# Altium footprint library PcbLibAT2560.PcbLib: 14 footprints
Each footprint in its own frame and in the unit in brackets; x right, y up, seen from the top. Pads: shape width x height; smd on the part's side, far side on the other; paste and mask are expansions set on the pad; w line width, h text height; cw(c..) or ccw(c..) is an arc to the next point about the centre after c.
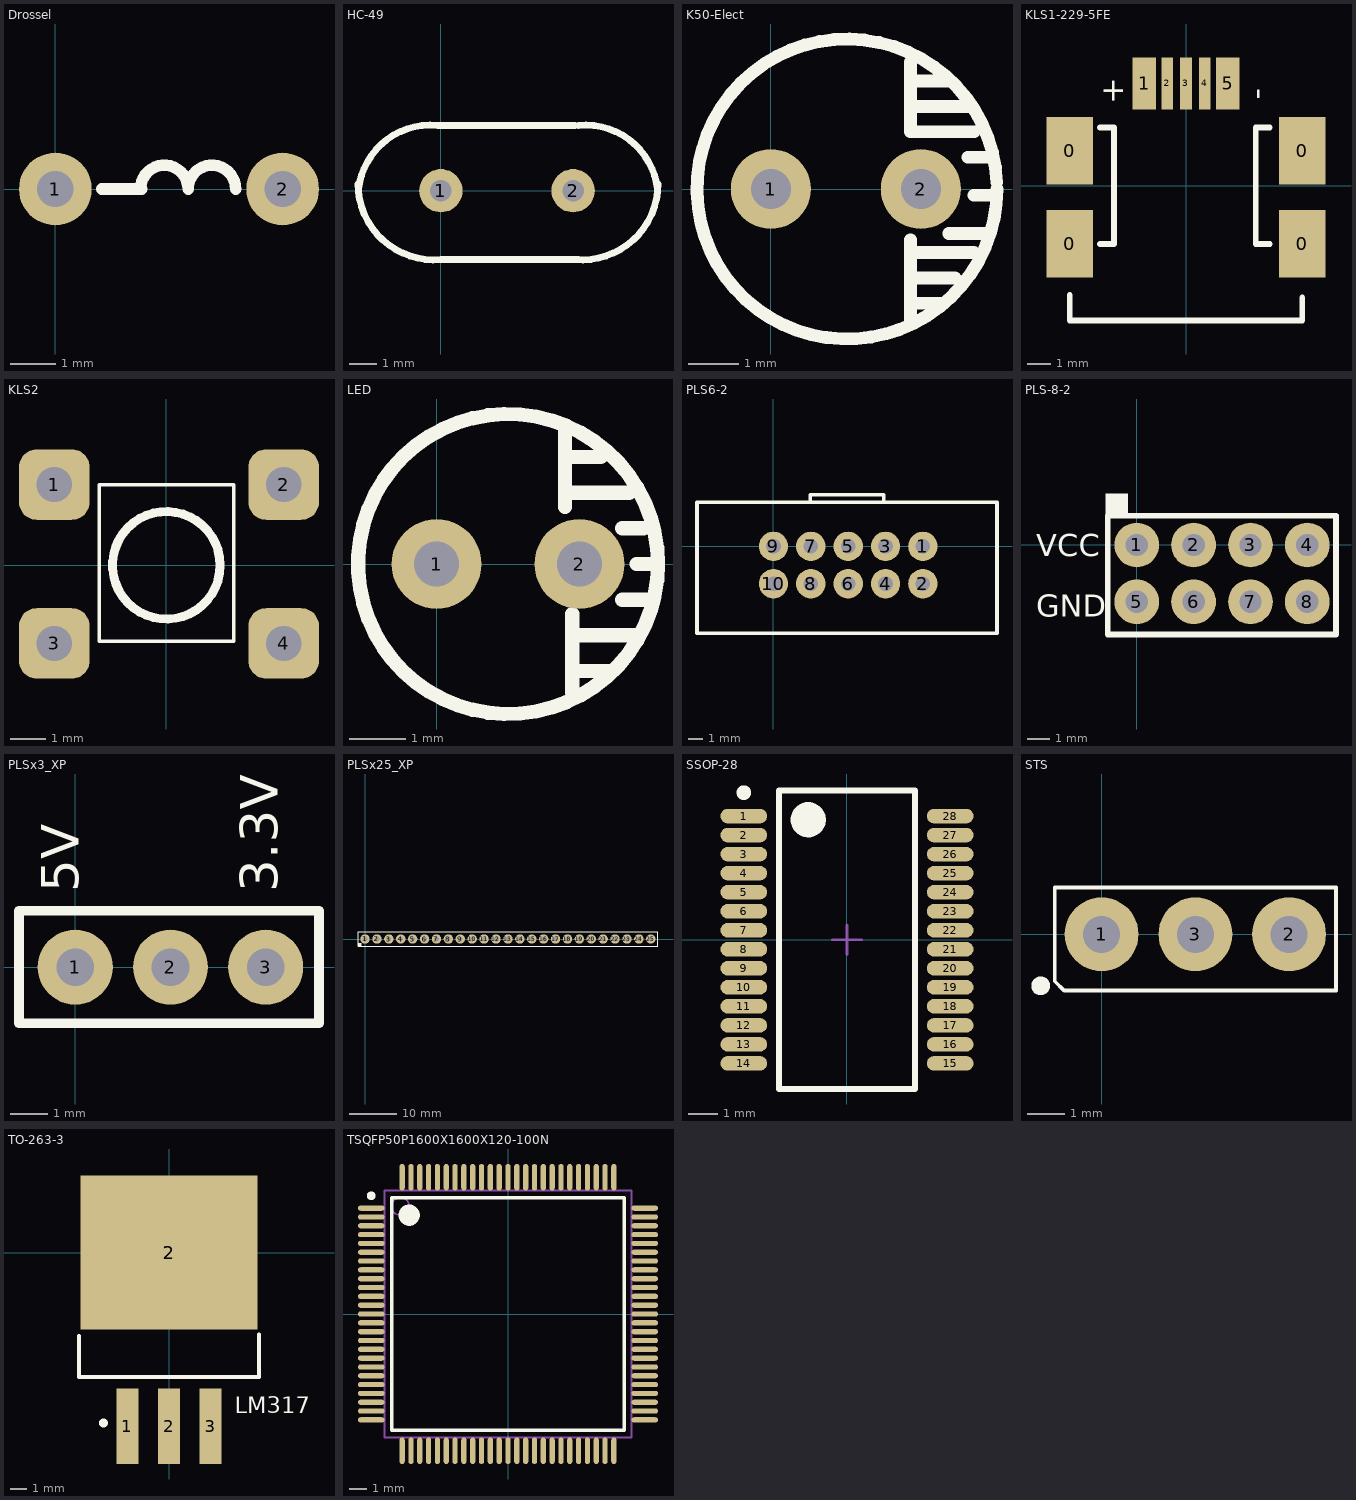
[diagram p0: the footprints below, top view; thin cyan lines are the x and y axes]

## Drossel [mm]
pads (2):
  round 1.6 hole 0.8: 1(0,0) 2(5,0)
Top Overlay:
  lines w0.254: 1.016,0 1.905,0 ; 1.874,0 cw(c2.397,0) 2.921,0 cw(c3.445,0) 3.968,0
3D body "катушка индуктивности вер.5ммstep.STEP": height 11.18, standoff -2.48, extent -0.26,-1.5 6.5,1.5

## HC-49 [mm]
pads (2):
  round 1.6 hole 0.8: 1(0,0) 2(4.88,0)
Top Overlay:
  lines w0.254: -3.06,0.254 ccw(c-0.254,0.254) 0,-2.54 5.08,-2.54 ; -3.048,0 cw(c-0.381,-0.254) -0.127,2.413 4.953,2.413 ; 4.953,-2.54 ccw(c5.207,0.254) 8.013,0.254 ; 5.08,2.413 cw(c5.334,-0.254) 8.001,0
3D body "резанатор HC-49U.STEP": height 14, standoff -3, extent -3.05,-2.5 7.95,2.5

## K50-Elect [mm]
pads (2):
  round 1.6 hole 0.8: 1(0,0) 2(3,0)
Top Overlay:
  lines w0.254: 2.794,-2.667 2.794,-1.016 ; 2.794,-2.286 3.429,-2.286 ; 2.794,2.159 3.556,2.159 ; 2.794,2.54 2.794,1.143 4.064,1.143 ; 2.921,-1.778 3.683,-1.778 ; 2.921,-1.27 4.064,-1.27 ; 2.921,1.651 3.937,1.651 ; 3.556,-0.889 4.318,-0.889 ; 3.937,0.635 4.318,0.635 ; 4.064,-0.127 4.445,-0.127 ; 4.521,0.136 ccw(c1.524,0) 4.524,0
3D body "Электролитический D6L12F3.STEP": height 13, standoff -3.5, extent -1.75,-3.25 4.75,3.25

## KLS1-229-5FE [mm]
pads (9):
  rect 2x2.9 smd: 0(-5,-2.5) 0(-5,1.5) 0(5,-2.5) 0(5,1.5)
  rect 1x2.25 smd: 1(-1.8,4.4) 5(1.8,4.4)
  rect 0.5x2.25 smd: 2(-0.8,4.4) 3(0,4.4) 4(0.8,4.4)
Top Overlay:
  lines w0.254: -5,-4.7 -5,-5.8 5,-5.8 5,-4.8 ; -3.7,-2.5 -3.1,-2.5 -3.1,2.5 -3.7,2.5 ; 3.6,-2.5 3,-2.5 3,2.5 3.6,2.5
  text "+" at -2.7,3.5 h1
  text "-" at 3.5,3.7 h1
3D body "USB_Mini_B_SMD_buchse.STEP": height 3.95, standoff -0.01, extent -5,-5.2 5,3.7

## KLS2 [mm]
pads (4):
  rrect50% 2x2 hole 1: 1(-3.175,2.286) 2(3.325,2.286) 3(-3.175,-2.214) 4(3.325,-2.214)
Top Overlay:
  circle w0.254: c0,0 r1.524
  lines w0.1: -1.905,-2.159 -1.905,2.286 1.905,2.286 1.905,-2.159 -1.905,-2.159
3D body "кнопка CAN0611.STEP": height 7.5, standoff -1, extent -3.123,-3 3.377,3

## LED [mm]
pads (2):
  round 1.6 hole 0.8: 1(0,0) 2(2.54,0)
Top Overlay:
  circle w0.254: c1.27,0 r2.67
  lines w0.254: 2.286,1.016 2.286,2.413 ; 2.286,1.27 3.429,1.27 ; 2.286,1.905 2.921,1.905 ; 2.413,-2.286 2.413,-0.889 ; 2.413,-1.905 3.048,-1.905 ; 2.54,-1.27 3.556,-1.27 ; 3.302,-0.635 3.81,-0.635 ; 3.302,0.635 3.683,0.635 ; 3.556,0 3.94,0
3D body "gnl3014.STEP": height 8, standoff -2.5, extent -0.68,-1.95 3.22,1.95

## PLS6-2 [mm]
pads (10):
  round 2 hole 1: 1(10.16,0) 2(10.16,-2.54) 3(7.62,0) 4(7.62,-2.54) 5(5.08,0) 6(5.08,-2.54) 7(2.54,0) 8(2.54,-2.54) 9(0,0) 10(0,-2.54)
Top Overlay:
  lines w0.254: 2.5,3 2.5,3.5 7.5,3.5 7.5,3.1 ; -5.2,-5.9 -5.2,3 15.2,3 15.2,-5.9 4.6,-5.9 -5.2,-5.9
3D body "DS1013-10SSiB.stp": height 9.3, standoff -3.1, extent -5.22,-5.97 15.38,3.13

## PLS-8-2 [mm]
pads (8):
  round 2 hole 1: 1(0,0) 2(2.54,0) 3(5.08,0) 4(7.62,0) 5(0,-2.54) 6(2.54,-2.54) 7(5.08,-2.54) 8(7.62,-2.54)
Top Overlay:
  rectangle: -1.4,1.3 -0.4,2.3
  lines w0.254: -1.3,-4 -1.3,1.3 8.9,1.3 8.9,-4 -1.3,-4
  text "VCC" at -4.5,-0.5 h1
  text "GND" at -4.5,-3.2 h1
3D body "Pin Header 1x1 TH Pitch 2.54mm.stp": height 10, standoff -2.7, extent -1.27,-1.27 1.27,1.27
3D body "Pin Header 1x1 TH Pitch 2.54mm.stp": height 10, standoff -2.7, extent 1.27,-1.27 3.81,1.27
3D body "Pin Header 1x1 TH Pitch 2.54mm.stp": height 10, standoff -2.7, extent 3.81,-1.27 6.35,1.27
3D body "Pin Header 1x1 TH Pitch 2.54mm.stp": height 10, standoff -2.7, extent 6.35,-1.27 8.89,1.27
3D body "Pin Header 1x1 TH Pitch 2.54mm.stp": height 10, standoff -2.7, extent 6.35,-3.81 8.89,-1.27
3D body "Pin Header 1x1 TH Pitch 2.54mm.stp": height 10, standoff -2.7, extent 3.81,-3.81 6.35,-1.27
3D body "Pin Header 1x1 TH Pitch 2.54mm.stp": height 10, standoff -2.7, extent 1.27,-3.81 3.81,-1.27
3D body "Pin Header 1x1 TH Pitch 2.54mm.stp": height 10, standoff -2.7, extent -1.27,-3.81 1.27,-1.27

## PLSx3_XP [mm]
pads (3):
  round 2 hole 1: 1(0,0) 2(2.54,0) 3(5.08,0)
Top Overlay:
  lines w0.254: -1.5,-1.5 6.5,-1.5 6.5,1.5 -1.5,1.5 -1.5,-1.5
  text "3.3V" at 5.4,2 h1
  text "5V" at 0.1,2 h1
3D body "Pin Header 1x1 TH Pitch 2.54mm.stp": height 10, standoff -2.7, extent -1.27,-1.27 1.27,1.27
3D body "Pin Header 1x1 TH Pitch 2.54mm.stp": height 10, standoff -2.7, extent 1.27,-1.27 3.81,1.27
3D body "Pin Header 1x1 TH Pitch 2.54mm.stp": height 10, standoff -2.7, extent 3.81,-1.27 6.35,1.27

## PLSx25_XP [mm]
pads (25):
  round 2 hole 1: 1(0,0) 2(2.54,0) 3(5.08,0) 4(7.62,0) 5(10.16,0) 6(12.7,0) 7(15.24,0) 8(17.78,0) 9(20.32,0) 10(22.86,0) 11(25.4,0) 12(27.94,0) 13(30.48,0) 14(33.02,0) 15(35.56,0) 16(38.1,0) 17(40.64,0) 18(43.18,0) 19(45.72,0) 20(48.26,0) 21(50.8,0) 22(53.34,0) 23(55.88,0) 24(58.42,0) 25(60.96,0)
Top Overlay:
  rectangle: -1.5,-1.5 -0.7,-0.9
  lines w0.254: -1.5,-1.5 62.5,-1.5 62.5,1.5 -1.5,1.5 -1.5,-1.5
3D body "Pin Header 1x1 TH Pitch 2.54mm.stp": height 10, standoff -2.7, extent -1.27,-1.27 1.27,1.27
3D body "Pin Header 1x1 TH Pitch 2.54mm.stp": height 10, standoff -2.7, extent 1.27,-1.27 3.81,1.27
3D body "Pin Header 1x1 TH Pitch 2.54mm.stp": height 10, standoff -2.7, extent 6.35,-1.27 8.89,1.27
3D body "Pin Header 1x1 TH Pitch 2.54mm.stp": height 10, standoff -2.7, extent 3.81,-1.27 6.35,1.27
3D body "Pin Header 1x1 TH Pitch 2.54mm.stp": height 10, standoff -2.7, extent 13.97,-1.27 16.51,1.27
3D body "Pin Header 1x1 TH Pitch 2.54mm.stp": height 10, standoff -2.7, extent 16.51,-1.27 19.05,1.27
3D body "Pin Header 1x1 TH Pitch 2.54mm.stp": height 10, standoff -2.7, extent 11.43,-1.27 13.97,1.27
3D body "Pin Header 1x1 TH Pitch 2.54mm.stp": height 10, standoff -2.7, extent 8.89,-1.27 11.43,1.27
3D body "Pin Header 1x1 TH Pitch 2.54mm.stp": height 10, standoff -2.7, extent 29.21,-1.27 31.75,1.27
3D body "Pin Header 1x1 TH Pitch 2.54mm.stp": height 10, standoff -2.7, extent 31.75,-1.27 34.29,1.27
3D body "Pin Header 1x1 TH Pitch 2.54mm.stp": height 10, standoff -2.7, extent 36.83,-1.27 39.37,1.27
3D body "Pin Header 1x1 TH Pitch 2.54mm.stp": height 10, standoff -2.7, extent 34.29,-1.27 36.83,1.27
3D body "Pin Header 1x1 TH Pitch 2.54mm.stp": height 10, standoff -2.7, extent 24.13,-1.27 26.67,1.27
3D body "Pin Header 1x1 TH Pitch 2.54mm.stp": height 10, standoff -2.7, extent 26.67,-1.27 29.21,1.27
3D body "Pin Header 1x1 TH Pitch 2.54mm.stp": height 10, standoff -2.7, extent 21.59,-1.27 24.13,1.27
3D body "Pin Header 1x1 TH Pitch 2.54mm.stp": height 10, standoff -2.7, extent 19.05,-1.27 21.59,1.27
3D body "Pin Header 1x1 TH Pitch 2.54mm.stp": height 10, standoff -2.7, extent 49.53,-1.27 52.07,1.27
3D body "Pin Header 1x1 TH Pitch 2.54mm.stp": height 10, standoff -2.7, extent 52.07,-1.27 54.61,1.27
3D body "Pin Header 1x1 TH Pitch 2.54mm.stp": height 10, standoff -2.7, extent 57.15,-1.27 59.69,1.27
3D body "Pin Header 1x1 TH Pitch 2.54mm.stp": height 10, standoff -2.7, extent 54.61,-1.27 57.15,1.27
3D body "Pin Header 1x1 TH Pitch 2.54mm.stp": height 10, standoff -2.7, extent 44.45,-1.27 46.99,1.27
3D body "Pin Header 1x1 TH Pitch 2.54mm.stp": height 10, standoff -2.7, extent 46.99,-1.27 49.53,1.27
3D body "Pin Header 1x1 TH Pitch 2.54mm.stp": height 10, standoff -2.7, extent 41.91,-1.27 44.45,1.27
3D body "Pin Header 1x1 TH Pitch 2.54mm.stp": height 10, standoff -2.7, extent 39.37,-1.27 41.91,1.27
3D body "Pin Header 1x1 TH Pitch 2.54mm.stp": height 10, standoff -2.7, extent 59.69,-1.27 62.23,1.27

## SSOP-28 [mm]
pads (28):
  oval 1.6x0.5 smd: 1(-3.525,4.225) 2(-3.525,3.575) 3(-3.525,2.925) 4(-3.525,2.275) 5(-3.525,1.625) 6(-3.525,0.975) 7(-3.525,0.325) 8(-3.525,-0.325) 9(-3.525,-0.975) 10(-3.525,-1.625) 11(-3.525,-2.275) 12(-3.525,-2.925) 13(-3.525,-3.575) 14(-3.525,-4.225) 15(3.525,-4.225) 16(3.525,-3.575) 17(3.525,-2.925) 18(3.525,-2.275) 19(3.525,-1.625) 20(3.525,-0.975) 21(3.525,-0.325) 22(3.525,0.325) 23(3.525,0.975) 24(3.525,1.625) 25(3.525,2.275) 26(3.525,2.925) 27(3.525,3.575) 28(3.525,4.225)
Top Overlay:
  circle w0.25: c-3.525,5.025 r0.125
  circle w0.6: c-1.325,4.1 r0.3
  lines w0.2: -2.325,-5.1 -2.325,5.1 2.325,5.1 2.325,-5.1 -2.325,-5.1
Mechanical 15:
  lines w0.1: -0.5,0 0.5,0 ; 0,-0.5 0,0.5
3D body "ssop28.stp": height 1.9, standoff 0, extent -3.9,-5.1 3.9,5.1

## STS [mm]
pads (3):
  round 2 hole 1: 1(0,0) 2(5.08,0) 3(2.54,0)
Top Overlay:
  circle w0.254: c-1.651,-1.397 r0.127
  lines w0.1: -1.27,-1.27 -1.27,1.27 6.35,1.27 6.35,-1.524 -1.016,-1.524 -1.27,-1.27
3D body "sts-3.SLDPRT": height 4, standoff -2, extent -1.27,-1.27 6.35,1.27

## TO-263-3 [mm]
pads (4):
  rect 1.35x4.6 smd: 1(-2.54,-10.6) 2(0,-10.6) 3(2.54,-10.6)
  rect 10.8x9.4 smd: 2(0,0)
Top Overlay:
  circle w0.254: c-4,-10.4 r0.141
  lines w0.254: -5.5,-5.1 -5.5,-7.6 5.5,-7.6 5.5,-5
  text "LM317" at 4,-9.8 h1
3D body "TO263-3-1.stp": height 4.22, standoff 0, extent -4.911,-12.06 4.911,2.541

## TSQFP50P1600X1600X120-100N [mm] "TSQFP, 100-Leads, Body 14,00x14,00mm, Pitch 0,50mm, IPC Medium Density"
height 1.2
pads (100):
  oval 1.5x0.3 smd: 1(-7.75,6) 2(-7.75,5.5) 3(-7.75,5) 4(-7.75,4.5) 5(-7.75,4) 6(-7.75,3.5) 7(-7.75,3) 8(-7.75,2.5) 9(-7.75,2) 10(-7.75,1.5) 11(-7.75,1) 12(-7.75,0.5) 13(-7.75,0) 14(-7.75,-0.5) 15(-7.75,-1) 16(-7.75,-1.5) 17(-7.75,-2) 18(-7.75,-2.5) 19(-7.75,-3) 20(-7.75,-3.5) 21(-7.75,-4) 22(-7.75,-4.5) 23(-7.75,-5) 24(-7.75,-5.5) 25(-7.75,-6) 51(7.75,-6) 52(7.75,-5.5) 53(7.75,-5) 54(7.75,-4.5) 55(7.75,-4) 56(7.75,-3.5) 57(7.75,-3) 58(7.75,-2.5) 59(7.75,-2) 60(7.75,-1.5) 61(7.75,-1) 62(7.75,-0.5) 63(7.75,0) 64(7.75,0.5) 65(7.75,1) 66(7.75,1.5) 67(7.75,2) 68(7.75,2.5) 69(7.75,3) 70(7.75,3.5) 71(7.75,4) 72(7.75,4.5) 73(7.75,5) 74(7.75,5.5) 75(7.75,6)
  oval 0.3x1.5 smd: 26(-6,-7.75) 27(-5.5,-7.75) 28(-5,-7.75) 29(-4.5,-7.75) 30(-4,-7.75) 31(-3.5,-7.75) 32(-3,-7.75) 33(-2.5,-7.75) 34(-2,-7.75) 35(-1.5,-7.75) 36(-1,-7.75) 37(-0.5,-7.75) 38(0,-7.75) 39(0.5,-7.75) 40(1,-7.75) 41(1.5,-7.75) 42(2,-7.75) 43(2.5,-7.75) 44(3,-7.75) 45(3.5,-7.75) 46(4,-7.75) 47(4.5,-7.75) 48(5,-7.75) 49(5.5,-7.75) 50(6,-7.75) 76(6,7.75) 77(5.5,7.75) 78(5,7.75) 79(4.5,7.75) 80(4,7.75) 81(3.5,7.75) 82(3,7.75) 83(2.5,7.75) 84(2,7.75) 85(1.5,7.75) 86(1,7.75) 87(0.5,7.75) 88(0,7.75) 89(-0.5,7.75) 90(-1,7.75) 91(-1.5,7.75) 92(-2,7.75) 93(-2.5,7.75) 94(-3,7.75) 95(-3.5,7.75) 96(-4,7.75) 97(-4.5,7.75) 98(-5,7.75) 99(-5.5,7.75) 100(-6,7.75)
Top Overlay:
  circle w0.6: c-5.6,5.6 r0.3
  circle w0.25: c-7.75,6.7 r0.125
  lines w0.2: -6.6,-6.6 6.6,-6.6 6.6,6.6 -6.6,6.6 -6.6,-6.6
3DComponent:
  circle w0.1: c-6.1,6.1 r0.5
  lines w0.1: -7,-7 7,-7 7,7 -7,7 -7,-7
3D body "TSQFP50P1600X1600X120-100N.step": height 1.2, standoff 0, extent -8,-8 8,8